# EAGLE library part OKL (library dc-dcs)
ムラタ表面実装ＤＣ－ＤＣコンバーター ＯＫＬ－Ｔ／６－Ｗ１２Ｎ－Ｃ
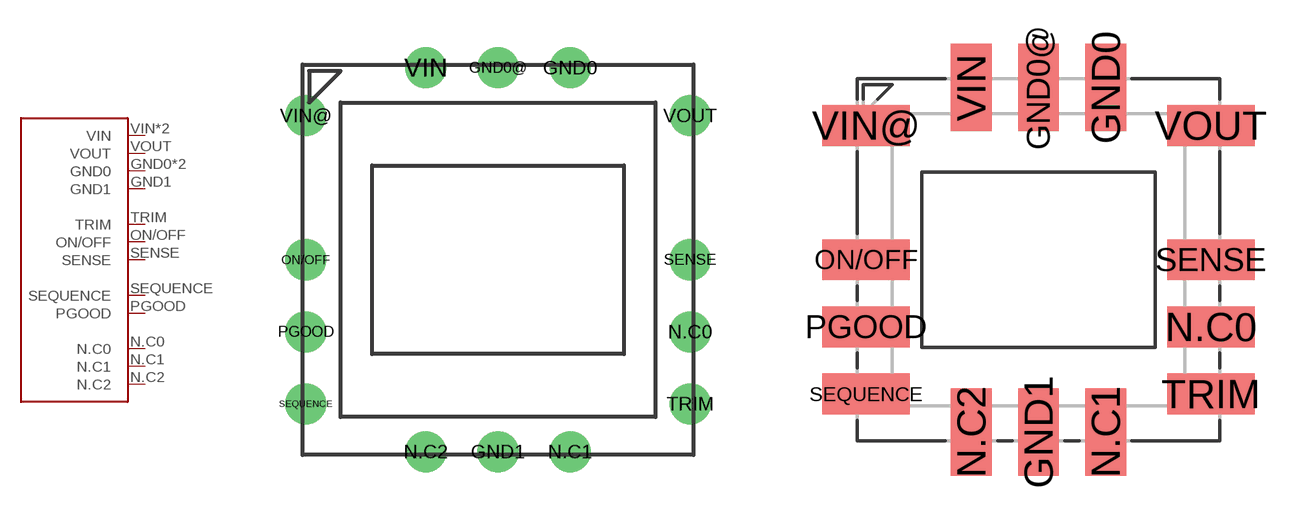
[diagram p1: symbol with the pads of OKL; footprints OKL, OKL_SMD]

Designator prefix -

## OKLDIP  [OKL]
GND0  GND0
GND0@  GND0
GND1  GND1
N.C0  N.C0
N.C1  N.C1
N.C2  N.C2
ON/OFF  ON/OFF
PGOOD  PGOOD
SENSE  SENSE
SEQUENCE  SEQUENCE
TRIM  TRIM
VIN  VIN
VIN@  VIN
VOUT  VOUT

## OKL  [OKL_SMD]
Pads as for OKL

## Footprint OKL (pad centres in mm)
drill 0.8: GND0 2.29,6.1; GND0@ 0,6.1; GND1 0,-6.1; N.C0 6.1,-2.29; N.C1 2.29,-6.1; N.C2 -2.29,-6.1; ON/OFF -6.1,0; PGOOD -6.1,-2.29; SENSE 6.1,0; SEQUENCE -6.1,-4.58; TRIM 6.1,-4.58; VIN -2.29,6.1; VIN@ -6.1,4.58; VOUT 6.1,4.58

## Footprint OKL_SMD (pad centres in mm)
smd 1.4 x 3: GND0 2.3,5.9; GND0@ 0,5.9; GND1 0,-5.9; N.C1 2.3,-5.9; N.C2 -2.3,-5.9; VIN -2.3,5.9
smd 3 x 1.4: N.C0 5.9,-2.3; ON/OFF -5.9,0; PGOOD -5.9,-2.3; SENSE 5.9,0; SEQUENCE -5.9,-4.6; TRIM 5.9,-4.6; VIN@ -5.9,4.6; VOUT 5.9,4.6